# Altium footprint library PCB.PCBLIB: 320 footprints (part 12 of 20)
Each footprint in its own frame and in the unit in brackets; x right, y up, seen from the top. Pads: shape width x height; smd on the part's side, far side on the other; paste and mask are expansions set on the pad; w line width, h text height; cw(c..) or ccw(c..) is an arc to the next point about the centre after c.
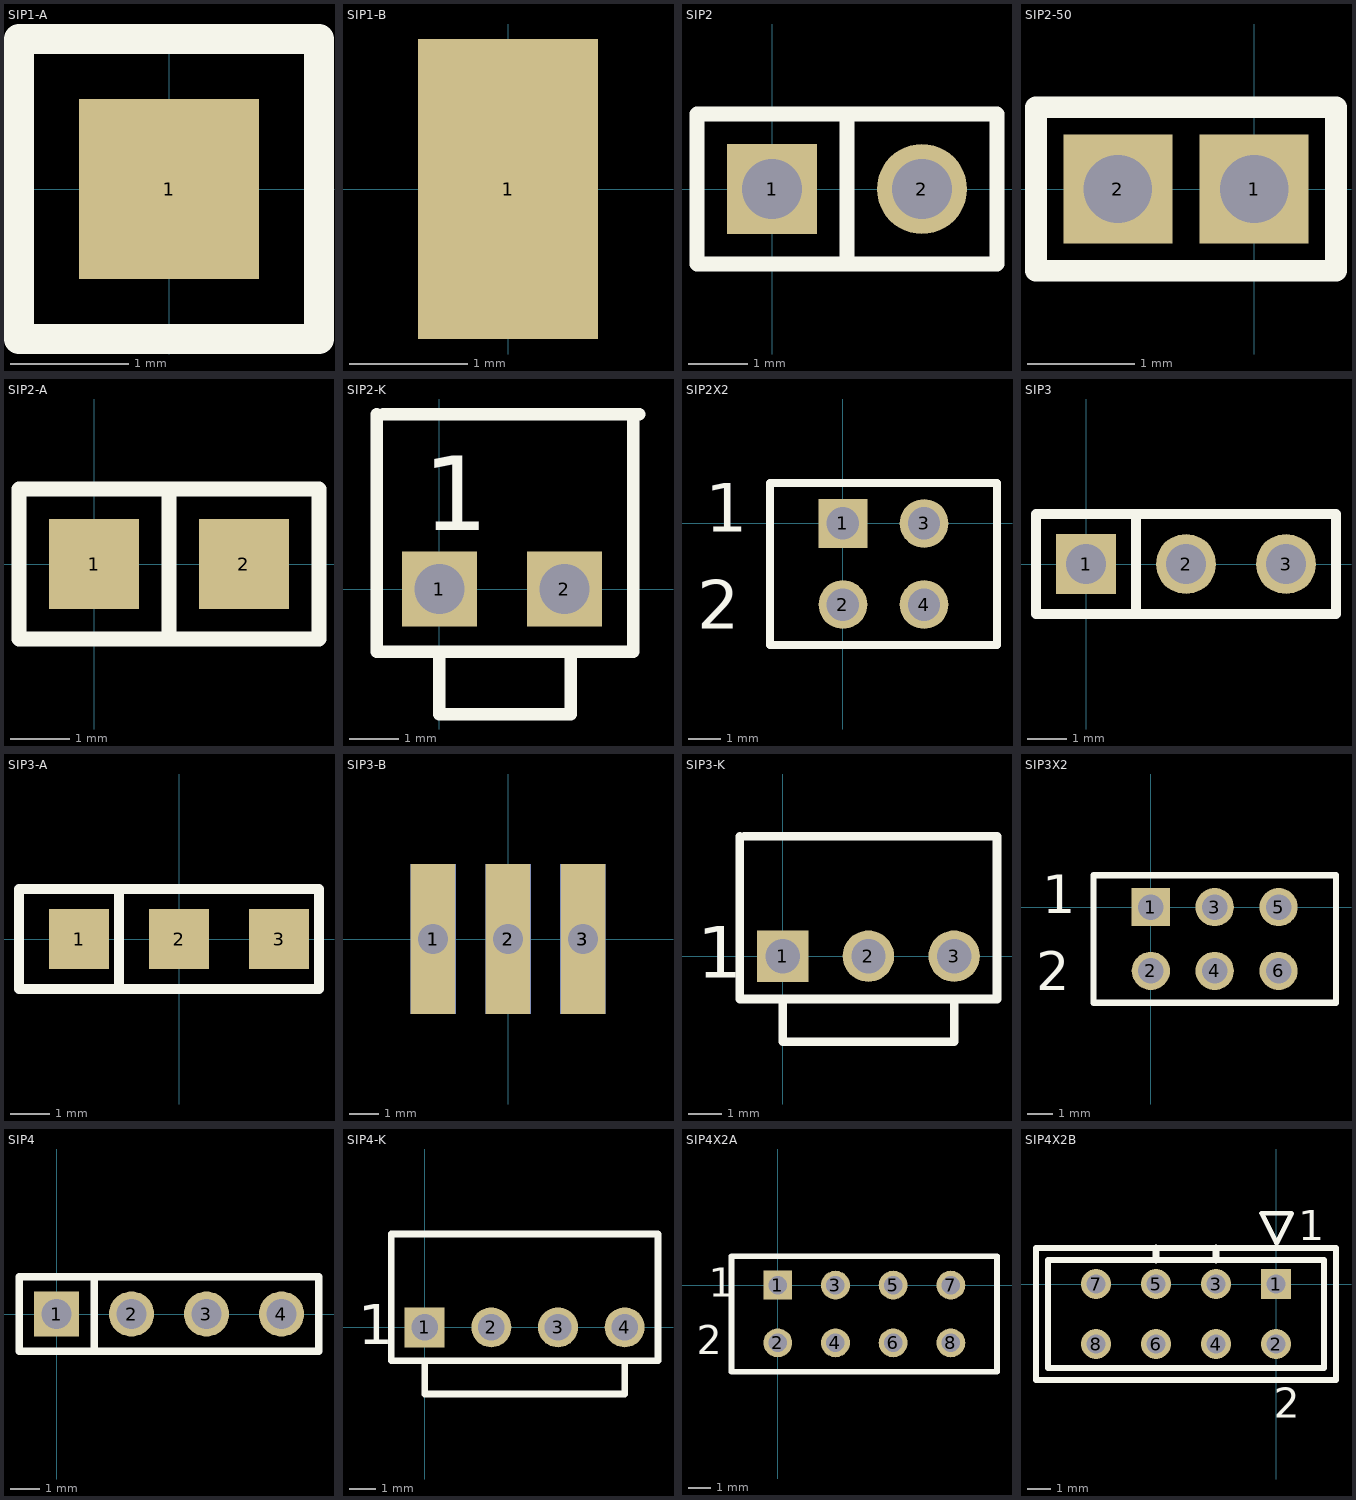
[diagram p11: the footprints below, top view; thin cyan lines are the x and y axes]

## SIP1-A [mil]
pads (1):
  rect 60x60 smd: 1(0,0)
TopOverlay:
  lines w10: -50,-50 -50,50 50,50 50,-50 -50,-50

## SIP1-B [mil]
pads (1):
  rect 60x100 smd: 1(0,0)

## SIP2 [mil]
pads (2):
  rect 60x60 hole 40: 1(0,0)
  round 60 hole 40: 2(100,0)
TopOverlay:
  lines w10: 50,-50 50,50 ; -50,-50 150,-50 150,50 -50,50 -50,-50

## SIP2-50 [mil]
pads (2):
  rect 40x40 hole 25: 1(0,0) 2(-50,0)
TopOverlay:
  lines w8: -80,-30 -80,30 30,30 30,-30 -80,-30

## SIP2-A [mil]
pads (2):
  rect 60x60 smd: 1(0,0) 2(100,0)
TopOverlay:
  lines w10: 50,-50 50,50 ; -50,-50 150,-50 150,50 -50,50 -50,-50

## SIP2-K [mil]
pads (2):
  rect 60x60 hole 40: 1(0,0) 2(100,0)
TopOverlay:
  lines w10: -50,140 -50,-50 155,-50 155,140 ; -45,140 160,140 ; 0,-50 0,-100 105,-100 105,-50
  text "1" at -13,47 h60

## SIP2X2 [mil]
pads (4):
  rect 60x60 hole 40: 1(0,0)
  round 60 hole 40: 2(0,-100) 3(100,0) 4(100,-100)
TopOverlay:
  lines w10: -90,-150 190,-150 190,-50 190,50 -90,50 -90,-50 -90,-150
  text "2" at -180,-130 h60
  text "1" at -170,-10 h60

## SIP3 [mil]
pads (3):
  rect 60x60 hole 40: 1(0,0)
  round 60 hole 40: 2(100,0) 3(200,0)
TopOverlay:
  lines w10: 50,-50 50,50 ; -50,-50 -50,50 250,50 250,-50 -50,-50

## SIP3-A [mil]
pads (3):
  rect 60x60 smd: 1(-100,0) 2(0,0) 3(100,0)
TopOverlay:
  lines w10: -60,-50 -60,50 ; -160,-50 -160,50 140,50 140,-50 -160,-50

## SIP3-B [mil]
pads (6):
  rect 60x200 on Top hole 40: 1(-100,0) 2(0,0) 3(100,0)
  rect 60x200 on Bottom hole 40: 1(-100,0) 2(0,0) 3(100,0)

## SIP3-K [mil]
pads (3):
  rect 60x60 hole 40: 1(0,0)
  round 60 hole 40: 2(100,0) 3(200,0)
TopOverlay:
  lines w10: -50,140 -50,-50 250,-50 250,140 -45,140 ; 0,-50 0,-100 200,-100 200,-50
  text "1" at -100,-25 h60

## SIP3X2 [mil]
pads (6):
  rect 60x60 hole 40: 1(0,0)
  round 60 hole 40: 2(0,-100) 3(100,0) 4(100,-100) 5(200,0) 6(200,-100)
TopOverlay:
  lines w10: -90,-150 -90,-30 -90,50 290,50 290,-50 290,-150 -90,-150
  text "1" at -170,-10 h60
  text "2" at -180,-130 h60

## SIP4 [mil]
pads (4):
  rect 60x60 hole 40: 1(0,0)
  round 60 hole 40: 2(100,0) 3(200,0) 4(300,0)
TopOverlay:
  lines w10: 50,-50 50,50 ; -50,-50 -50,50 350,50 350,-50 -50,-50

## SIP4-K [mil]
pads (4):
  rect 60x60 hole 40: 1(0,0)
  round 60 hole 40: 2(100,0) 3(200,0) 4(300,0)
TopOverlay:
  lines w10: 0,-50 0,-100 300,-100 300,-50 ; -50,-50 -50,140 350,140 350,-50 -50,-50
  text "1" at -100,-25 h60

## SIP4X2A [mil]
pads (8):
  rect 50x50 hole 32: 1(0,0)
  round 50 hole 32: 2(0,-100) 3(100,0) 4(100,-100) 5(200,0) 6(200,-100) 7(300,0) 8(300,-100)
TopOverlay:
  lines w10: -80,-150 380,-150 380,50 -80,50 -80,-50 -80,-150
  text "2" at -140,-120 h50
  text "1" at -120,-20 h50

## SIP4X2B [mil]
pads (8):
  rect 50x50 hole 32: 1(0,0)
  round 50 hole 32: 2(0,-100) 3(-100,0) 4(-100,-100) 5(-200,0) 6(-200,-100) 7(-300,0) 8(-300,-100)
TopOverlay:
  lines w8: -24,118 26,118 1,68 -24,118
  lines w10: -400,-160 -400,60 100,60 100,-160 -400,-160 ; -380,-140 80,-140 80,40 -380,40 -380,-140
  lines w12: -200,40 -200,60 ; -100,40 -100,60
  text "1" at 37,73 h50
  text "2" at -4,-223 h50